# EAGLE library part IN14 (library nixie_ticker)
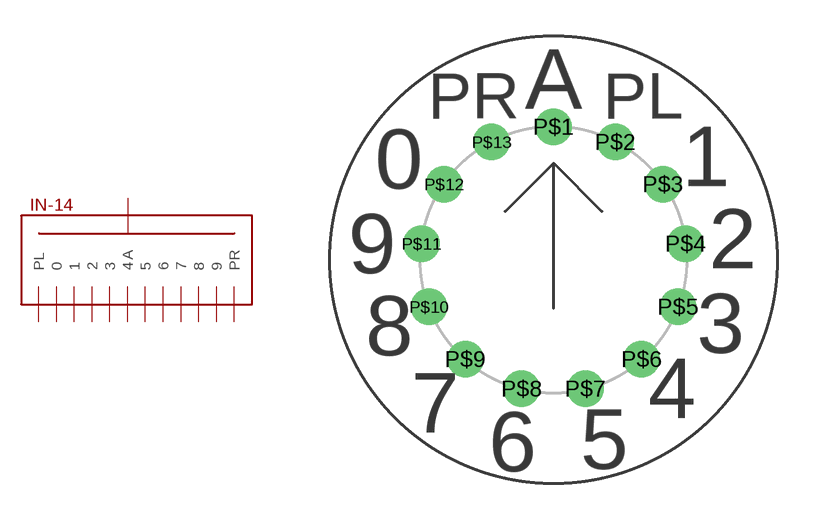
[diagram p0: symbol with the pads of IN14; footprint IN14]

Designator prefix -

## IN14  [IN14]
P$1  A
P$2  PL
P$3  1
P$4  2
P$5  3
P$6  4
P$7  5
P$8  6
P$9  7
P$10  8
P$11  9
P$12  0
P$13  PR

## Footprint IN14 (pad centres in mm)
drill 1: P$1 0,5.5; P$2 2.556,4.87; P$3 4.526,3.124; P$4 5.46,0.663; P$5 5.143,-1.95; P$6 3.647,-4.117; P$7 1.316,-5.34; P$8 -1.316,-5.34; P$9 -3.647,-4.117; P$10 -5.143,-1.95; P$11 -5.46,0.663; P$12 -4.526,3.124; P$13 -2.556,4.87